# EAGLE library part OPAMP_LMH6611MKE (library GTOR - Active Components)
General Purpose Amplifier 1 Circuit Rail-to-Rail TSOT-23-6
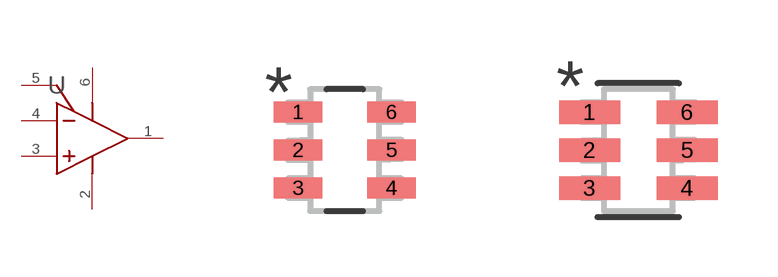
[diagram p17: symbol with the pads of MK06A; footprints MK06A, MK06A-M]

Designator prefix U

## OPAMP_LMH6611MKE (COPYRIGHT: Copyright (C) 2022 Ultra Librarian. All rights reserved.; DIGI-KEY_PART_NUMBER_1: LMH6611MKE/NOPBCT-ND; DIGI-KEY_PART_NUMBER_2: LMH6611MKE/NOPBDKR-ND; DIGI-KEY_PART_NUMBER_3: LMH6611MKE/NOPBTR-ND; DIGI-KEY_PART_NUMBER_4: 2156-LMH6611MKE/NOPB-ND; MANUFACTURER_PART_NUMBER: LMH6611MKE/NOPB; MFR_NAME: Texas Instruments)  [MK06A]
1  OUT  out
2  V-  pwr
3  IN+  in
4  IN-  in
5  ~DIS  pas
6  V+  pwr

## OPAMP_LMH6611MKEMK06A-M (COPYRIGHT: Copyright (C) 2022 Ultra Librarian. All rights reserved.; DIGI-KEY_PART_NUMBER_1: LMH6611MKE/NOPBCT-ND; DIGI-KEY_PART_NUMBER_2: LMH6611MKE/NOPBDKR-ND; DIGI-KEY_PART_NUMBER_3: LMH6611MKE/NOPBTR-ND; DIGI-KEY_PART_NUMBER_4: 2156-LMH6611MKE/NOPB-ND; MANUFACTURER_PART_NUMBER: LMH6611MKE/NOPB; MFR_NAME: Texas Instruments)  [MK06A-M]
Pads as for MK06A

## OPAMP_LMH6611MKEMK06A-L (COPYRIGHT: Copyright (C) 2022 Ultra Librarian. All rights reserved.; DIGI-KEY_PART_NUMBER_1: LMH6611MKE/NOPBCT-ND; DIGI-KEY_PART_NUMBER_2: LMH6611MKE/NOPBDKR-ND; DIGI-KEY_PART_NUMBER_3: LMH6611MKE/NOPBTR-ND; DIGI-KEY_PART_NUMBER_4: 2156-LMH6611MKE/NOPB-ND; MANUFACTURER_PART_NUMBER: LMH6611MKE/NOPB; MFR_NAME: Texas Instruments)  [MK06A-L]
Pads as for MK06A

## Footprint MK06A (pad centres in mm)
smd 1.219 x 0.533: 1 -1.168,0.95; 2 -1.168,0; 3 -1.168,-0.95; 4 1.168,-0.95; 5 1.168,0; 6 1.168,0.95

## Footprint MK06A-M (pad centres in mm)
smd 1.524 x 0.584: 1 -1.219,0.95; 2 -1.219,0; 3 -1.219,-0.95; 4 1.219,-0.95; 5 1.219,0; 6 1.219,0.95

## Footprint MK06A-L (pad centres in mm)
smd 0.914 x 0.483: 1 -1.118,0.95; 2 -1.118,0; 3 -1.118,-0.95; 4 1.118,-0.95; 5 1.118,0; 6 1.118,0.95